# Altium schematic symbol library EPC_2023_Q1a_1.SCHLIB: 86 symbols (part 1 of 2)
Pins are listed as number, name and electrical type; pins without a type are passive.

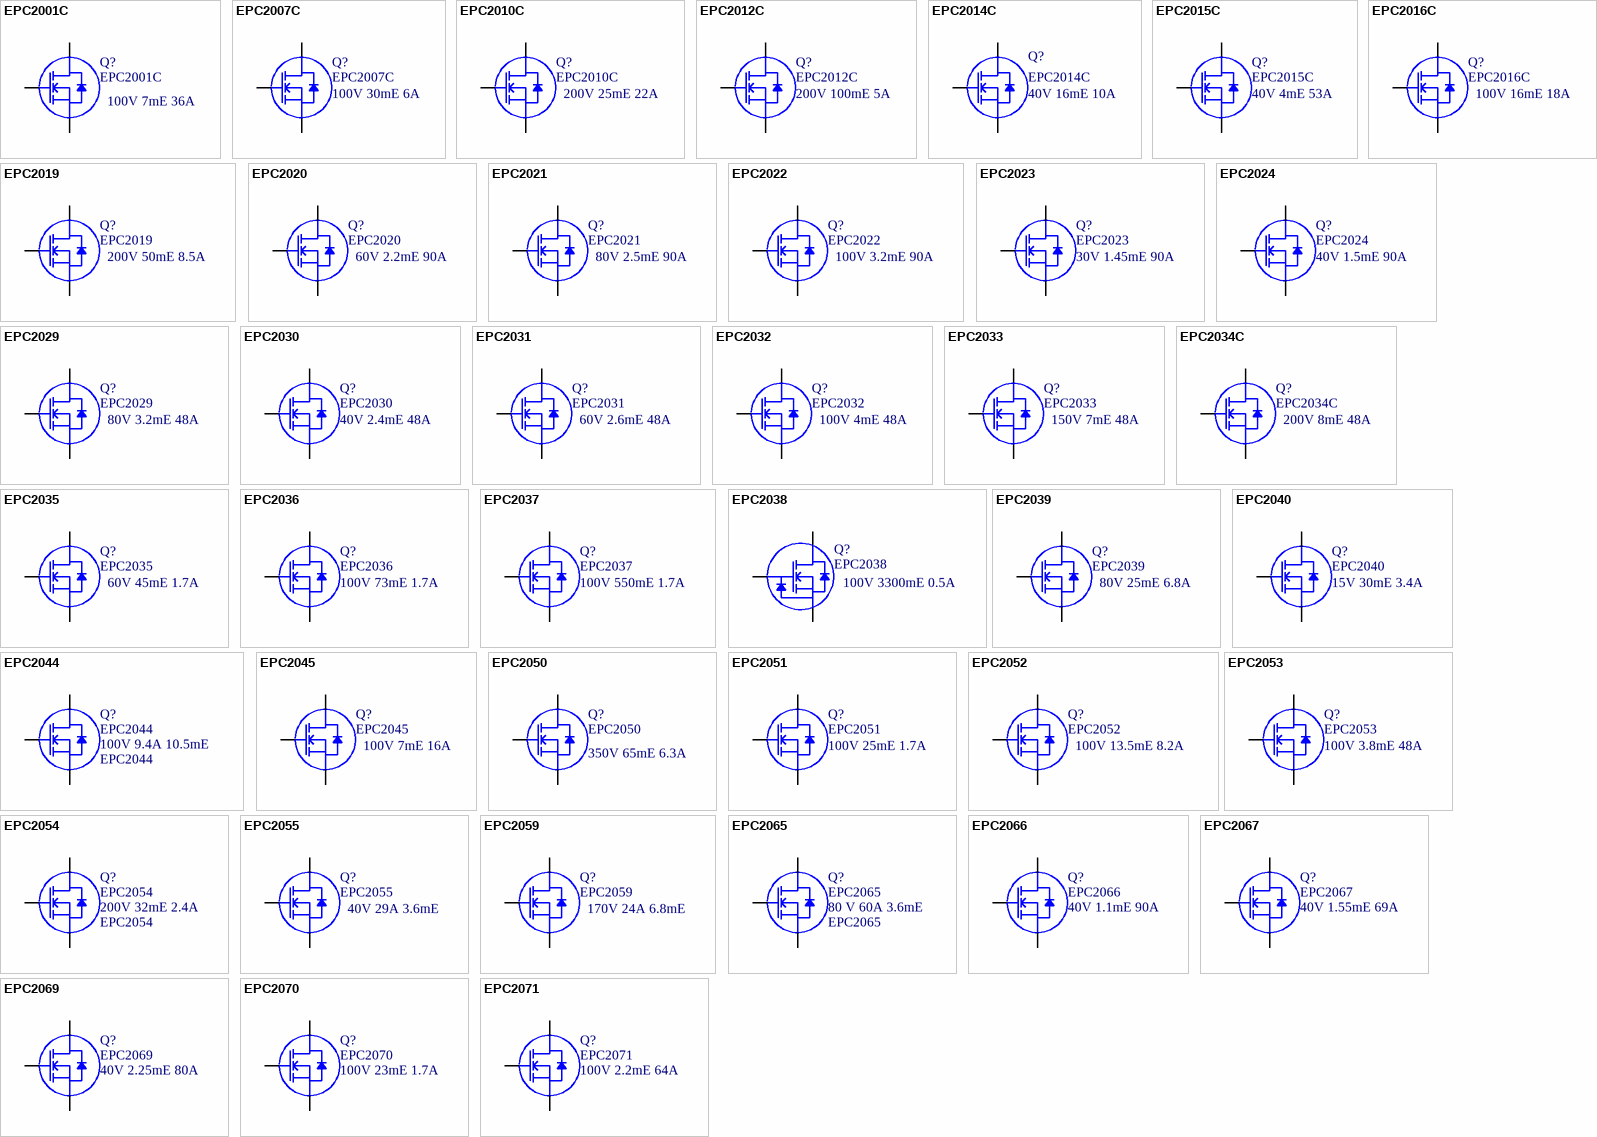
[diagram p0: symbols EPC2001C to EPC2071]

## EPC2001C
designator Q?
100V 7mE 36A; MFG: EPC; Part Number: EPC2001C; EPC Part Number: EPC2001C; Config: *; Status: Released; MFGPN: EPC2001C; Supplier 1: Digi-Key; Supplier Part Number 1: 917-1079-2-ND; Supplier 2: Digi-Key; Supplier Part Number 2: 917-1079-1-ND; Supplier 3: Digi-Key; Supplier Part Number 3: 917-1079-6-ND; QSGdescript: 100V 7mE 36A; SchDescript: 100V 7mE 36A
footprint D0188
pins: 1 G, 2 Sub (oe), 3 D1 (oc), 4 S1 (oe), 5 D2 (oc), 6 S2 (oe), 7 D3 (oc), 8 S3 (oe), 9 D4 (oc), 10 S4 (oe), 11 D5 (oc)

## EPC2007C
designator Q?
100V 30mE 6A; MFG: EPC; Part Number: EPC2007C; EPC Part Number: EPC2007C; Config: *; Status: Released; MFGPN: EPC2007C; Supplier 1: Digi-Key; Supplier Part Number 1: 917-1081-2-ND; Supplier 2: Digi-Key; Supplier Part Number 2: 917-1081-1-ND; Supplier 3: Digi-Key; Supplier Part Number 3: 917-1081-6-ND; QSGdescript: 100V 30mE 6A; SchDescript: 100V 30mE 6A
footprint D0199
pins: 1 G, 2 Sub (oe), 3 D1 (oc), 4 S1 (oe), 5 D2 (oc)

## EPC2010C
designator Q?
200V 25mE 22A; MFG: EPC; Part Number: EPC2010C; EPC Part Number: EPC2010C; Config: *; Status: Released; MFGPN: EPC2010C; Supplier 1: Digi-Key; Supplier Part Number 1: 917-1085-2-ND; Supplier 2: Digi-Key; Supplier Part Number 2: 917-1085-1-ND; Supplier 3: Digi-Key; Supplier Part Number 3: 917-1085-6-ND; QSGdescript: 200V 25mE 22A; SchDescript: 200V 25mE 22A
footprint D0309
pins: 1 G, 2 Sub (oe), 3 D1 (oc), 4 S1 (oe), 5 D2 (oc), 6 S2 (oe), 7 D3 (oc)

## EPC2012C
designator Q?
200V 100mE 5A; MFG: EPC; Part Number: EPC2012C; EPC Part Number: EPC2012C; Config: *; Status: Released; MFGPN: EPC2012C; Supplier 1: Digi-Key; Supplier Part Number 1: 917-1084-2-ND; Supplier 2: Digi-Key; Supplier Part Number 2: 917-1084-1-ND; Supplier 3: Digi-Key; Supplier Part Number 3: 917-1084-6-ND; QSGdescript: 200V 100mE 5A; SchDescript: 200V 100mE 5A
footprint D0375
pins: 1 G, 2 Sub (oe), 3 D (oc), 4 S (oe)

## EPC2014C
designator Q?
40V 16mE 10A; MFG: EPC; Part Number: EPC2014C; EPC Part Number: EPC2014C; Config: *; Status: Released; MFGPN: EPC2014C; Supplier 1: Digi-Key; Supplier Part Number 1: 917-1082-2-ND; Supplier 2: Digi-Key; Supplier Part Number 2: 917-1082-1-ND; Supplier 3: Digi-Key; Supplier Part Number 3: 917-1082-6-ND; QSGdescript: 40V 16mE 10A; SchDescript: 40V 16mE 10A
footprint D0199
pins: 1 G, 2 Sub (oe), 3 D1 (oc), 4 S1 (oe), 5 D2 (oc)

## EPC2015C
designator Q?
40V 4mE 53A; MFG: EPC; Part Number: EPC2015C; EPC Part Number: EPC2015C; Config: *; Status: Released; MFGPN: EPC2015C; Supplier 1: Digi-Key; Supplier Part Number 1: 917-1083-2-ND; Supplier 2: Digi-Key; Supplier Part Number 2: 917-1083-1-ND; Supplier 3: Digi-Key; Supplier Part Number 3: 917-1083-6-ND; QSGdescript: 40V 4mE 53A; SchDescript: 40V 4mE 53A
footprint D0188
pins: 1 G, 2 Sub (oe), 3 D1 (oc), 4 S1 (oe), 5 D2 (oc), 6 S2 (oe), 7 D3 (oc), 8 S3 (oe), 9 D4 (oc), 10 S4 (oe), 11 D5 (oc)

## EPC2016C
designator Q?
100V 16mE 18A; MFG: EPC; Part Number: EPC2016C; EPC Part Number: EPC2016C; Config: *; Status: Released; MFGPN: EPC2016C; Supplier 1: Digi-Key; Supplier Part Number 1: 917-1080-2-ND; Supplier 2: Digi-Key; Supplier Part Number 2: 917-1080-1-ND; Supplier 3: Digi-Key; Supplier Part Number 3: 917-1080-6-ND; QSGdescript: 100V 16mE 18A; SchDescript: 100V 16mE 18A
footprint D0155
pins: 1 G, 2 Sub (oe), 3 D1 (oc), 4 SP1 (oe), 5 D2 (oc), 6 SP2 (oe)

## EPC2019
designator Q?
200V 50mE 8.5A; MFG: EPC; Part Number: EPC2019; EPC Part Number: EPC2019; Config: *; Status: Released; MFGPN: EPC2019; Supplier 1: Digi-Key; Supplier Part Number 1: 917-1087-2-ND; Supplier 2: Digi-Key; Supplier Part Number 2: 917-1087-1-ND; Supplier 3: Digi-Key; Supplier Part Number 3: 917-1087-6-ND; QSGdescript: 200V 50mE 8.5A; SchDescript: 200V 50mE 8.5A
footprint D0364
pins: 1 G, 2 S3 (oe), 3 D1 (oc), 4 S1 (oe), 5 D2 (oc), 6 S2 (oe), 7 Sub (oe)

## EPC2020
designator Q?
60V 2.2mE 90A; MFG: EPC; Part Number: EPC2020; EPC Part Number: EPC2020; Config: *; Status: Released; MFGPN: EPC2020; Supplier 1: Digi-Key; Supplier Part Number 1: 917-1105-2-ND; Supplier 2: Digi-Key; Supplier Part Number 2: 917-1105-1-ND; Supplier 3: Digi-Key; Supplier Part Number 3: 917-1105-6-ND; QSGdescript: 60V 2.2mE 90A; SchDescript: 60V 2.2mE 90A
footprint D0232
pins: 1 G, 2 S1 (oe), 3 D1 (oc), 4 D1 (oc), 5 S2 (oe), 6 S3 (oe), 7 D2 (oc), 8 D3 (oc), 9 S4 (oe), 10 S5 (oe), 11 D4 (oc), 12 D5 (oc), 13 S6 (oe), 14 S7 (oe), 15 D6 (oc), 16 D7 (oc), 17 S8 (oe), 18 S9 (oe), 19 D8 (oc), 20 D9 (oc), 21 S10 (oe), 22 S11 (oe), 23 D10 (oc), 24 D11 (oc), 25 S12 (oe), 26 S13 (oe), 27 D12 (oc), 28 D13 (oc), 29 S14 (oe), 30 Sub (oe)

## EPC2021
designator Q?
80V 2.5mE 90A; MFG: EPC; Part Number: EPC2021; EPC Part Number: EPC2021; Config: *; Status: Released; MFGPN: EPC2021; Supplier 1: Digi-Key; Supplier Part Number 1: 917-1089-2-ND; Supplier 2: Digi-Key; Supplier Part Number 2: 917-1089-1-ND; Supplier 3: Digi-Key; Supplier Part Number 3: 917-1089-6-ND; QSGdescript: 80V 2.5mE 90A; SchDescript: 80V 2.5mE 90A
footprint D0232
pins: 1 G, 2 S1 (oe), 3 D1 (oc), 4 D2 (oc), 5 S2 (oe), 6 S3 (oe), 7 D3 (oc), 8 D4 (oc), 9 S4 (oe), 10 S5 (oe), 11 D5 (oc), 12 D6 (oc), 13 S6 (oe), 14 S7 (oe), 15 D7 (oc), 16 D8 (oc), 17 S8 (oe), 18 S9 (oe), 19 D9 (oc), 20 D10 (oc), 21 S10 (oe), 22 S11 (oe), 23 D11 (oc), 24 D12 (oc), 25 S12 (oe), 26 S13 (oe), 27 D13 (oc), 28 D14 (oc), 29 S14 (oe), 30 Sub (oe)

## EPC2022
designator Q?
100V 3.2mE 90A; MFG: EPC; Part Number: EPC2022; EPC Part Number: EPC2022; Config: *; Status: Released; MFGPN: EPC2022; Supplier 1: Digi-Key; Supplier Part Number 1: 917-1133-2-ND; Supplier 2: Digi-Key; Supplier Part Number 2: 917-1133-1-ND; Supplier 3: Digi-Key; Supplier Part Number 3: 917-1133-6-ND; QSGdescript: 100V 3.2mE 90A; SchDescript: 100V 3.2mE 90A
footprint D0232
pins: 1 G, 2 S1 (oe), 3 D1 (oc), 4 D2 (oc), 5 S2 (oe), 6 S3 (oe), 7 D3 (oc), 8 D4 (oc), 9 S4 (oe), 10 S5 (oe), 11 D5 (oc), 12 D6 (oc), 13 S6 (oe), 14 S7 (oe), 15 D7 (oc), 16 D8 (oc), 17 S8 (oe), 18 S9 (oe), 19 D9 (oc), 20 D10 (oc), 21 S10 (oe), 22 S11 (oe), 23 D11 (oc), 24 D12 (oc), 25 S12 (oe), 26 S13 (oe), 27 D13 (oc), 28 D14 (oc), 29 S14 (oe), 30 Sub (oe)

## EPC2023
designator Q?
30V 1.45mE 90A; MFG: EPC; Part Number: EPC2023; EPC Part Number: EPC2023; Config: *; Status: Released; MFGPN: EPC2023; Supplier 1: Digi-Key; Supplier Part Number 1: 917-1088-2-ND; Supplier 2: Digi-Key; Supplier Part Number 2: 917-1088-1-ND; Supplier 3: Digi-Key; Supplier Part Number 3: 917-1088-6-ND; QSGdescript: 30V 1.45mE 90A; SchDescript: 30V 1.45mE 90A
footprint D0232
pins: 1 G, 2 S1 (oe), 3 D1 (oc), 4 D2 (oc), 5 S2 (oe), 6 S3 (oe), 7 D3 (oc), 8 D4 (oc), 9 S4 (oe), 10 S5 (oe), 11 D5 (oc), 12 D6 (oc), 13 S6 (oe), 14 S7 (oe), 15 D7 (oc), 16 D8 (oc), 17 S8 (oe), 18 S9 (oe), 19 D9 (oc), 20 D10 (oc), 21 S10 (oe), 22 S11 (oe), 23 D11 (oc), 24 D12 (oc), 25 S12 (oe), 26 S13 (oe), 27 D13 (oc), 28 D14 (oc), 29 S14 (oe), 30 Sub (oe)

## EPC2024
designator Q?
40V 1.5mE 90A; MFG: EPC; Part Number: EPC2024; EPC Part Number: EPC2024; Config: *; Status: Released; MFGPN: EPC2024; Supplier 1: Digi-Key; Supplier Part Number 1: 917-1106-2-ND; Supplier 2: Digi-Key; Supplier Part Number 2: 917-1106-1-ND; Supplier 3: Digi-Key; Supplier Part Number 3: 917-1106-6-ND; QSGdescript: 40V 1.5mE 90A; SchDescript: 40V 1.5mE 90A
footprint D0232
pins: 1 G, 2 S1 (oe), 3 D1 (oc), 4 D2 (oc), 5 S2 (oe), 6 S3 (oe), 7 D3 (oc), 8 D4 (oc), 9 S4 (oe), 10 S5 (oe), 11 D5 (oc), 12 D6 (oc), 13 S6 (oe), 14 S7 (oe), 15 D7 (oc), 16 D8 (oc), 17 S8 (oe), 18 S9 (oe), 19 D9 (oc), 20 D10 (oc), 21 S10 (oe), 22 S11 (oe), 23 D11 (oc), 24 D12 (oc), 25 S12 (oe), 26 S13 (oe), 27 D13 (oc), 28 D14 (oc), 29 S14 (oe), 30 Sub (oe)

## EPC2029
designator Q?
80V 3.2mE 48A; MFG: EPC; Part Number: EPC2029; EPC Part Number: EPC2029; Config: *; Status: Released; MFGPN: EPC2029; Supplier 1: Digi-Key; Supplier Part Number 1: 917-1107-2-ND; Supplier 2: Digi-Key; Supplier Part Number 2: 917-1107-1-ND; Supplier 3: Digi-Key; Supplier Part Number 3: 917-1107-6-ND; QSGdescript: 80V 3.2mE 48A; SchDescript: 80V 3.2mE 48A
footprint D0386T3
footprint D0386T4
pins: 1 G, 2 G, 3 S1 (oe), 4 S2 (oe), 5 D1 (oc), 6 D2 (oc), 7 D3 (oc), 8 D4 (oc), 9 D5 (oc), 10 S3 (oe), 11 S4 (oe), 12 Sub (oe), 13 S5 (oe), 14 S6 (oe), 15 D6 (oc), 16 D7 (oc), 17 D8 (oc), 18 D9 (oc), 19 D10 (oc), 20 S7 (oe), 21 S8 (oe), 22 S9 (oe), 23 S10 (oe), 24 S11 (oe)

## EPC2030
designator Q?
40V 2.4mE 48A; MFG: EPC; Part Number: EPC2030; EPC Part Number: EPC2030; Config: *; Status: Released; MFGPN: EPC2030; Supplier 1: Digi-Key; Supplier Part Number 1: 917-1150-2-ND; Supplier 2: Digi-Key; Supplier Part Number 2: 917-1150-1-ND; Supplier 3: Digi-Key; Supplier Part Number 3: 917-1150-6-ND; QSGdescript: 40V 2.4mE 48A; SchDescript: 40V 2.4mE 48A
footprint D0386T3
footprint D0386T4
pins: 1 G, 2 G, 3 S1 (oe), 4 S2 (oe), 5 D1 (oc), 6 D2 (oc), 7 D3 (oc), 8 D4 (oc), 9 D5 (oc), 10 S3 (oe), 11 S4 (oe), 12 Sub (oe), 13 S5 (oe), 14 S6 (oe), 15 D6 (oc), 16 D7 (oc), 17 D8 (oc), 18 D9 (oc), 19 D10 (oc), 20 S7 (oe), 21 S8 (oe), 22 S9 (oe), 23 S10 (oe), 24 S11 (oe)

## EPC2031
designator Q?
60V 2.6mE 48A; MFG: EPC; Part Number: EPC2031; EPC Part Number: EPC2031; Config: *; Status: Released; MFGPN: EPC2031; Supplier 1: Digi-Key; Supplier Part Number 1: 917-1151-2-ND; Supplier 2: Digi-Key; Supplier Part Number 2: 917-1151-1-ND; Supplier 3: Digi-Key; Supplier Part Number 3: 917-1151-6-ND; QSGdescript: 60V 2.6mE 48A; SchDescript: 60V 2.6mE 48A
footprint D0386T3
footprint D0386T4
pins: 1 G, 2 G, 3 S1 (oe), 4 S2 (oe), 5 D1 (oc), 6 D2 (oc), 7 D3 (oc), 8 D4 (oc), 9 D5 (oc), 10 S3 (oe), 11 S4 (oe), 12 Sub (oe), 13 S5 (oe), 14 S6 (oe), 15 D6 (oc), 16 D7 (oc), 17 D8 (oc), 18 D9 (oc), 19 D10 (oc), 20 S7 (oe), 21 S8 (oe), 22 S9 (oe), 23 S10 (oe), 24 S11 (oe)

## EPC2032
designator Q?
100V 4mE 48A; MFG: EPC; Part Number: EPC2032; EPC Part Number: EPC2032; Config: *; Status: Released; MFGPN: EPC2032; Supplier 1: Digi-Key; Supplier Part Number 1: 917-1126-2-ND; Supplier 2: Digi-Key; Supplier Part Number 2: 917-1126-1-ND; Supplier 3: Digi-Key; Supplier Part Number 3: 917-1126-6-ND; QSGdescript: 100V 4mE 48A; SchDescript: 100V 4mE 48A
footprint D0386T3
footprint D0386T4
pins: 1 G, 2 G, 3 S1 (oe), 4 S2 (oe), 5 D1 (oc), 6 D2 (oc), 7 D3 (oc), 8 D4 (oc), 9 D5 (oc), 10 S3 (oe), 11 S4 (oe), 12 Sub (oe), 13 S5 (oe), 14 S6 (oe), 15 D6 (oc), 16 D7 (oc), 17 D8 (oc), 18 D9 (oc), 19 D10 (oc), 20 S7 (oe), 21 S8 (oe), 22 S9 (oe), 23 S10 (oe), 24 S11 (oe)

## EPC2033
designator Q?
150V 7mE 48A; MFG: EPC; Part Number: EPC2033; EPC Part Number: EPC2033; Config: *; Status: Released; MFGPN: EPC2033; Supplier 1: Digi-Key; Supplier Part Number 1: 917-1131-2-ND; Supplier 2: Digi-Key; Supplier Part Number 2: 917-1131-1-ND; Supplier 3: Digi-Key; Supplier Part Number 3: 917-1131-6-ND; QSGdescript: 150V 7mE 48A; SchDescript: 150V 7mE 48A
footprint D0386T3
footprint D0386T4
pins: 1 G, 2 G, 3 S1 (oe), 4 S2 (oe), 5 D1 (oc), 6 D2 (oc), 7 D3 (oc), 8 D4 (oc), 9 D5 (oc), 10 S3 (oe), 11 S4 (oe), 12 Sub (oe), 13 S5 (oe), 14 S6 (oe), 15 D6 (oc), 16 D7 (oc), 17 D8 (oc), 18 D9 (oc), 19 D10 (oc), 20 S7 (oe), 21 S8 (oe), 22 S9 (oe), 23 S10 (oe), 24 S11 (oe)

## EPC2034C
designator Q?
200V 8mE 48A; MFG: EPC; Part Number: EPC2034C; EPC Part Number: EPC2034C; Config: *; Status: Released; MFGPN: EPC2034C; Supplier 1: Digi-Key; Supplier Part Number 1: 917-1214-2-ND; Supplier 2: Digi-Key; Supplier Part Number 2: 917-1214-1-ND; Supplier 3: Digi-Key; Supplier Part Number 3: 917-1214-6-ND; QSGdescript: 200V 8mE 48A; SchDescript: 200V 8mE 48A
footprint D0386T3
footprint D0386T4
pins: 1 G, 2 G, 3 S1 (oe), 4 S2 (oe), 5 D1 (oc), 6 D2 (oc), 7 D3 (oc), 8 D4 (oc), 9 D5 (oc), 10 S3 (oe), 11 S4 (oe), 12 Sub (oe), 13 S5 (oe), 14 S6 (oe), 15 D6 (oc), 16 D7 (oc), 17 D8 (oc), 18 D9 (oc), 19 D10 (oc), 20 S7 (oe), 21 S8 (oe), 22 S9 (oe), 23 S10 (oe), 24 S11 (oe)

## EPC2035
designator Q?
60V 45mE 1.7A; MFG: EPC; Part Number: EPC2035; EPC Part Number: EPC2035; Config: *; Status: Released; MFGPN: EPC2035; Supplier 1: Digi-Key; Supplier Part Number 1: 917-1099-2-ND; Supplier 2: Digi-Key; Supplier Part Number 2: 917-1099-1-ND; Supplier 3: Digi-Key; Supplier Part Number 3: 917-1099-6-ND; QSGdescript: 60V 45mE 1.7A; SchDescript: 60V 45mE 1.7A
footprint D0353
pins: 1 G, 2 S1 (oe), 3 D1 (oc), 4 S2 (oe)

## EPC2036
designator Q?
100V 73mE 1.7A; MFG: EPC; Part Number: EPC2036; EPC Part Number: EPC2036; Config: *; Status: Released; MFGPN: EPC2036; Supplier 1: Digi-Key; Supplier Part Number 1: 917-1100-2-ND; Supplier 2: Digi-Key; Supplier Part Number 2: 917-1100-1-ND; Supplier 3: Digi-Key; Supplier Part Number 3: 917-1100-6-ND; QSGdescript: 100V 73mE 1.7A; SchDescript: 100V 73mE 1.7A
footprint D0353
pins: 1 G, 2 S1 (oe), 3 D1 (oc), 4 S2 (oe)

## EPC2037
designator Q?
100V 550mE 1.7A; MFG: EPC; Part Number: EPC2037; EPC Part Number: EPC2037; Config: *; Status: Released; MFGPN: EPC2037; Supplier 1: Digi-Key; Supplier Part Number 1: 917-1137-2-ND; Supplier 2: Digi-Key; Supplier Part Number 2: 917-1137-1-ND; Supplier 3: Digi-Key; Supplier Part Number 3: 917-1137-6-ND; QSGdescript: 100V 550mE 1.7A; SchDescript: 100V 550mE 1.7A
footprint D0353
pins: 1 G, 2 S1 (oe), 3 D1 (oc), 4 S2 (oe)

## EPC2038
designator Q?
100V 3300mE 0.5A; MFG: EPC; Part Number: EPC2038; EPC Part Number: EPC2038; Config: *; Status: Released; MFGPN: EPC2038; Supplier 1: Digi-Key; Supplier Part Number 1: 917-1138-2-ND; Supplier 2: Digi-Key; Supplier Part Number 2: 917-1138-1-ND; Supplier 3: Digi-Key; Supplier Part Number 3: 917-1138-6-ND; QSGdescript: 100V 3300mE 0.5A; SchDescript: 100V 3300mE 0.5A
footprint D0353
pins: 1 G, 2 S1 (oe), 3 D1 (oc), 4 S2 (oe)

## EPC2039
designator Q?
80V 25mE 6.8A; MFG: EPC; Part Number: EPC2039; EPC Part Number: EPC2039; Config: *; Status: Released; MFGPN: EPC2039; Supplier 1: Digi-Key; Supplier Part Number 1: 917-1147-2-ND; Supplier 2: Digi-Key; Supplier Part Number 2: 917-1147-1-ND; Supplier 3: Digi-Key; Supplier Part Number 3: 917-1147-6-ND; QSGdescript: 80V 25mE 6.8A; SchDescript: 80V 25mE 6.8A
footprint D0144
pins: 1 G, 2 S1 (oe), 3 S2 (oe), 4 D1 (oc), 5 D2 (oc), 6 D3 (oc), 7 D4 (oc), 8 S3 (oe), 9 S4 (oe)

## EPC2040
designator Q?
15V 30mE 3.4A; MFG: EPC; Part Number: EPC2040; EPC Part Number: EPC2040; Config: *; Status: Released; MFGPN: EPC2040; Supplier 1: Digi-Key; Supplier Part Number 1: 917-1153-2-ND; Supplier 2: Digi-Key; Supplier Part Number 2: 917-1153-1-ND; Supplier 3: Digi-Key; Supplier Part Number 3: 917-1153-6-ND; QSGdescript: 15V 30mE 3.4A; SchDescript: 15V 30mE 3.4A
footprint D0210
pins: 1 G, 2 D1 (oc), 3 S1 (oe), 4 S2 (oe), 5 D2 (oc), 6 S3 (oe)

## EPC2044
designator Q?  SchDescript: 100V 9.4A 10.5mE
100V 10.5mE 9.4A; MFG: EPC; Name: Dahlia; Part Number: EPC2044; MFGPN: EPC2044; EPC Part Number: EPC2044; QSGdescript: 100V 9.4A 10.5mE; Status: Released; Supplier 1: Digi-Key; Supplier Part Number 1: 917-EPC2044CT-ND; Supplier 2: Digi-Key; Supplier Part Number 2: 917-EPC2044TR-ND; Supplier 3: Digi-Key; Supplier Part Number 3: 917-EPC2044DKR-ND
footprint D0265
pins: A1 G, A2 D1 (oc), A3 S3 (oe), A4 D4 (oc), A5 S6 (oe), B1 S1 (oe), B2 D2 (oc), B3 S4 (oe), B4 D5 (oc), B5 S7 (oe), C1 S2 (oe), C2 D3 (oc), C3 S5 (oe), C4 D6 (oc), C5 S8 (oe)

## EPC2045
designator Q?
100V 7mE 16A; MFG: EPC; Part Number: EPC2045; EPC Part Number: EPC2045; Config: *; Status: Released; MFGPN: EPC2045; Supplier 1: Digi-Key; Supplier Part Number 1: 917-1186-2-ND; Supplier 2: Digi-Key; Supplier Part Number 2: 917-1186-1-ND; Supplier 3: Digi-Key; Supplier Part Number 3: 917-1186-6-ND; QSGdescript: 100V 7mE 16A; SchDescript: 100V 7mE 16A
footprint D0012
pins: 1 G, 2 S1 (oe), 3 S2 (oe), 4 D1 (oc), 5 D2 (oc), 6 D3 (oc), 7 S3 (oe), 8 Sub (oe), 9 S4 (oe), 10 D4 (oc), 11 D5 (oc), 12 D6 (oc), 13 S5 (oe), 14 S6 (oe), 15 S7 (oe)

## EPC2050
designator Q?
350V 65mE 6.3A; MFG: EPC; Part Number: EPC2050; EPC Part Number: EPC2050; Config: *; Status: Released; MFGPN: EPC2050; QSGdescript: 350V 65mE 6.3A; SchDescript: 350V 65mE 6.3A; Supplier 1: Digi-Key; Supplier 2: Digi-Key; Supplier 3: Digi-Key; Supplier Part Number 1: EPC2050-ND
footprint D0078
pins: 1 G, 2 S1 (oe), 3 S2 (oe), 4 S3 (oe), 5 D1 (oc), 6 D2 (oc), 7 D3 (oc), 8 D4 (oc), 9 S4 (oe), 10 S5 (oe), 11 Sub (oe), 12 S6 (oe)

## EPC2051
designator Q?
100V 25mE 1.7A; MFG: EPC; Part Number: EPC2051; EPC Part Number: EPC2051; Config: *; Status: Released; MFGPN: EPC2051; Supplier 1: Digi-Key; Supplier Part Number 1: 917-1201-2-ND; Supplier 2: Digi-Key; Supplier Part Number 2: 917-1201-1-ND; Supplier 3: Digi-Key; Supplier Part Number 3: 917-1201-6-ND; QSGdescript: 100V 25mE 1.7A; SchDescript: 100V 25mE 1.7A
footprint D0001
pins: 1 G, 2 S1 (oe), 3 D1 (oc), 4 D2 (oc), 5 S2 (oe), 6 Sub (oe)

## EPC2052
designator Q?
100V 13.5mE 8.2A; MFG: EPC; Part Number: EPC2052; EPC Part Number: EPC2052; Config: *; Status: Released; MFGPN: EPC2052; Supplier 1: Digi-Key; Supplier Part Number 1: 917-1202-2-ND; Supplier 2: Digi-Key; Supplier Part Number 2: 917-1202-1-ND; Supplier 3: Digi-Key; Supplier Part Number 3: 917-1202-6-ND; QSGdescript: 100V 13.5mE 8.2A; SchDescript: 100V 13.5mE 8.2A
footprint D0045
pins: 1 G, 2 S1 (oe), 3 S2 (oe), 4 D1 (oc), 5 D2 (oc), 6 D3 (oc), 7 S3 (oe), 8 S5 (oe), 9 S4 (oe)

## EPC2053
designator Q?
100V 3.8mE 48A; MFG: EPC; Part Number: EPC2053; EPC Part Number: EPC2053; Config: *; Status: Released; MFGPN: EPC2053; Supplier 1: Digi-Key; Supplier Part Number 1: 917-1204-2-ND; Supplier 2: Digi-Key; Supplier Part Number 2: 917-1204-1-ND; Supplier 3: Digi-Key; Supplier Part Number 3: 917-1204-6-ND; QSGdescript: 100V 3.8mE 48A; SchDescript: 100V 3.8mE 48A
footprint D0034
pins: 1 G, 2 S1 (oe), 3 S2 (oe), 4 S3 (oe), 5 D1 (oc), 6 D2 (oc), 7 D3 (oc), 8 D4 (oc), 9 S4 (oe), 10 S5 (oe), 11 S6 (oe), 12 S7 (oe), 13 D5 (oc), 14 D6 (oc), 15 D7 (oc), 16 D8 (oc), 17 S8 (oe), 18 S9 (oe), 19 S10 (oe), 20 S11 (oe), 21 D9 (oc), 22 D10 (oc), 23 D11 (oc), 24 D12 (oc), 25 S12 (oe), 26 S13 (oe), 27 S14 (oe), 28 S15 (oe)

## EPC2054
designator Q?
200V 32mE 2.4A; MFG: EPC; Part Number: EPC2054; SchDescript: 200V 32mE 2.4A; MFGPN: EPC2054; EPC Part Number: EPC2054; QSGdescript: 200V 32mE 2.4A; Status: Released; Supplier 1: Digi-Key; Supplier Part Number 1: 917-1206-2-ND; Supplier 2: Digi-Key; Supplier 3: Digi-Key
footprint D0474
pins: 1 G, 2 S1 (oe), 3 D (oc), 4 S2 (oe)

## EPC2055
designator Q?
40V 29A 3.6mE; MFG: EPC; Part Number: EPC2055; EPC Part Number: EPC2055; Config: *; Status: Released; MFGPN: EPC2055; Supplier 1: Digi-Key; Supplier Part Number 1: 917-EPC2055CT-ND; Supplier 2: Digi-Key; Supplier Part Number 2: 917-EPC2055TR-ND; Supplier 3: Digi-Key; Supplier Part Number 3: 917-EPC2055DKR-ND; QSGdescript: 40V 29A 3.6mE; SchDescript: 40V 29A 3.6mE
footprint D0133CT44M
pins: 1 G, 2 S (oe), 3 D (oc), 4 S (oe), 5 D (oc), 6 S (oe)

## EPC2059
designator Q?  SchDescript: 170V 24A 6.8mE
170V 25A 9mE; MFG: EPC; MFGPN: EPC2059; Part Number: EPC2059; EPC Part Number: EPC2059; Config: *; Status: Released; Supplier 1: Digi-Key; Supplier 2: Digi-Key; Supplier 3: Digi-Key; Supplier Part Number 3: 917-EPC2059DKR-ND; QSGdescript: 170V 24A 6.8mE; Supplier Part Number 1: 917-EPC2059CT-ND; Supplier Part Number 2: 917-EPC2059TR-ND
footprint D0298T34M
pins: 1 G, 2 S, 3 D, 4 S, 5 D, 6 S

## EPC2065
designator Q?
80 V 60A 3.6mE; MFG: EPC; Part Number: EPC2065; SchDescript: 80 V 60A 3.6mE; MFGPN: EPC2065; EPC Part Number: EPC2065; QSGdescript: 80 V 60A 3.6mE; Status: Released; Supplier 1: Digi-Key; Supplier Part Number 1: 917-EPC2065TR-ND; Supplier 2: Digi-Key; Supplier 3: Digi-Key
footprint D0320T34M
pins: 1 G, 2 S, 3 D, 4 S, 5 D, 6 S, 7 D, 8 S

## EPC2066
designator Q?
40V 1.1mE 90A; MFG: EPC; Name: Aspen; Part Number: EPC2066; SchDescript: 40V 1.1mE 90A; MFGPN: EPC2066; EPC Part Number: EPC2066; QSGdescript: 40V 1.1mE 90A; Status: Released; Supplier 1: Digi-Key; Supplier Part Number 1: 917-EPC2066TR-ND; Supplier 2: Digi-Key; Supplier Part Number 2: 917-EPC2066CT-ND; Supplier 3: Digi-Key; Supplier Part Number 3: 917-EPC2066DKR-ND
footprint D0650
footprint D0232
pins: 1 G, 2 S1 (oe), 3 D1 (oc), 4 D2 (oc), 5 S2 (oe), 6 S3 (oe), 7 D3 (oc), 8 D4 (oc), 9 S4 (oe), 10 S5 (oe), 11 D5 (oc), 12 D6 (oc), 13 S6 (oe), 14 S7 (oe), 15 D7 (oc), 16 D8 (oc), 17 S8 (oe), 18 S9 (oe), 19 D9 (oc), 20 D10 (oc), 21 S10 (oe), 22 S11 (oe), 23 D11 (oc), 24 D12 (oc), 25 S12 (oe), 26 S13 (oe), 27 D13 (oc), 28 D14 (oc), 29 S14 (oe), 30 Sub (oe)

## EPC2067
designator Q?
40V 1.55mE 69A; MFG: EPC; Part Number: EPC2067; SchDescript: 40V 1.55mE 69A; MFGPN: EPC2067; EPC Part Number: EPC2067; QSGdescript: 40V 1.55mE 69A; Status: Released; Supplier 1: Digi-Key; Supplier Part Number 1: 917-EPC2067-TR-ND; Supplier 2: Digi-Key; Supplier Part Number 2: 917-EPC2067CT-ND; Supplier 3: Digi-Key; Supplier Part Number 3: 917-EPC2067DKR-ND
footprint D0540
pins: 1 G, 2 S1 (oe), 3 D1 (oc), 4 D2 (oc), 5 S2 (oe), 6 S3 (oe), 7 D3 (oc), 8 D4 (oc), 9 S4 (oe), 10 S5 (oe), 11 D5 (oc), 12 D6 (oc), 13 S6 (oe), 14 S7 (oe)

## EPC2069
designator Q?  SchDescript: 40V 2.25mE 80A
40V 2.25mE 69A; MFG: EPC; Name: Charon; Part Number: EPC2069; MFGPN: EPC2069; EPC Part Number: EPC2069; QSGdescript: 40V 2.25mE 80A; Status: Released; Supplier 1: Digi-Key; Supplier Part Number 1: 917-EPC2069-TR-ND; Supplier 2: Digi-Key; Supplier Part Number 2: 917-EPC2069CT-ND; Supplier 3: Digi-Key; Supplier Part Number 3: 917-EPC2069DKR-ND
footprint D0496
pins: 1 G, 2 S1 (oe), 3 D1 (oc), 4 D2 (oc), 5 S2 (oe), 6 S3 (oe), 7 D3 (oc), 8 D4 (oc), 9 S4 (oe), 10 S5 (oe), 11 D5 (oc), 12 D6 (oc), 13 S6 (oe), 14 S7 (oe), 15 D7 (oc), 16 D8 (oc)

## EPC2070
designator Q?
100V 23mE 1.7A; MFG: EPC; Name: Cedar; Part Number: EPC2070; SchDescript: 100V 23mE 1.7A; MFGPN: EPC2070; EPC Part Number: EPC2070; QSGdescript: 100V 23mE 1.7A; Status: Released; Supplier 1: Digi-Key; Supplier Part Number 1: 917-EPC2070TR-ND; Supplier 2: Digi-Key; Supplier Part Number 2: 917-EPC2070CT-ND; Supplier 3: Digi-Key; Supplier Part Number 3: 917-EPC2070DKR-ND
footprint D0562AT4
pins: 1 G, 2 S1 (oe), 3 D1 (oc), 4 D2 (oc), 5 S2 (oe), 6 Sub (oe)

## EPC2071
designator Q?
100V 2.2mE 64A; MFG: EPC; Name: Mahogany; Part Number: EPC2071; SchDescript: 100V 2.2mE 64A; MFGPN: EPC2071; EPC Part Number: EPC2071; QSGdescript: 100V 2.2mE 64A; Status: Released; Supplier 1: Digi-Key; Supplier Part Number 1: 917-EPC2071TR-ND; Supplier 2: Digi-Key; Supplier Part Number 2: 917-EPC2071CT-ND; Supplier 3: Digi-Key; Supplier Part Number 3: 917-EPC2071DKR-ND
footprint D0683
pins: 1 G, 2 S1 (oe), 3 D1 (oc), 4 D2 (oc), 5 S2 (oe), 6 S3 (oe), 7 D3 (oc), 8 D4 (oc), 9 S4 (oe), 10 S5 (oe), 11 D5 (oc), 12 D6 (oc), 13 S6 (oe), 14 S7 (oe), 15 D7 (oc), 16 D8 (oc), 17 S8 (oe), 18 S9 (oe), 19 D9 (oc), 20 D10 (oc), 21 S10 (oe), 22 S11 (oe)

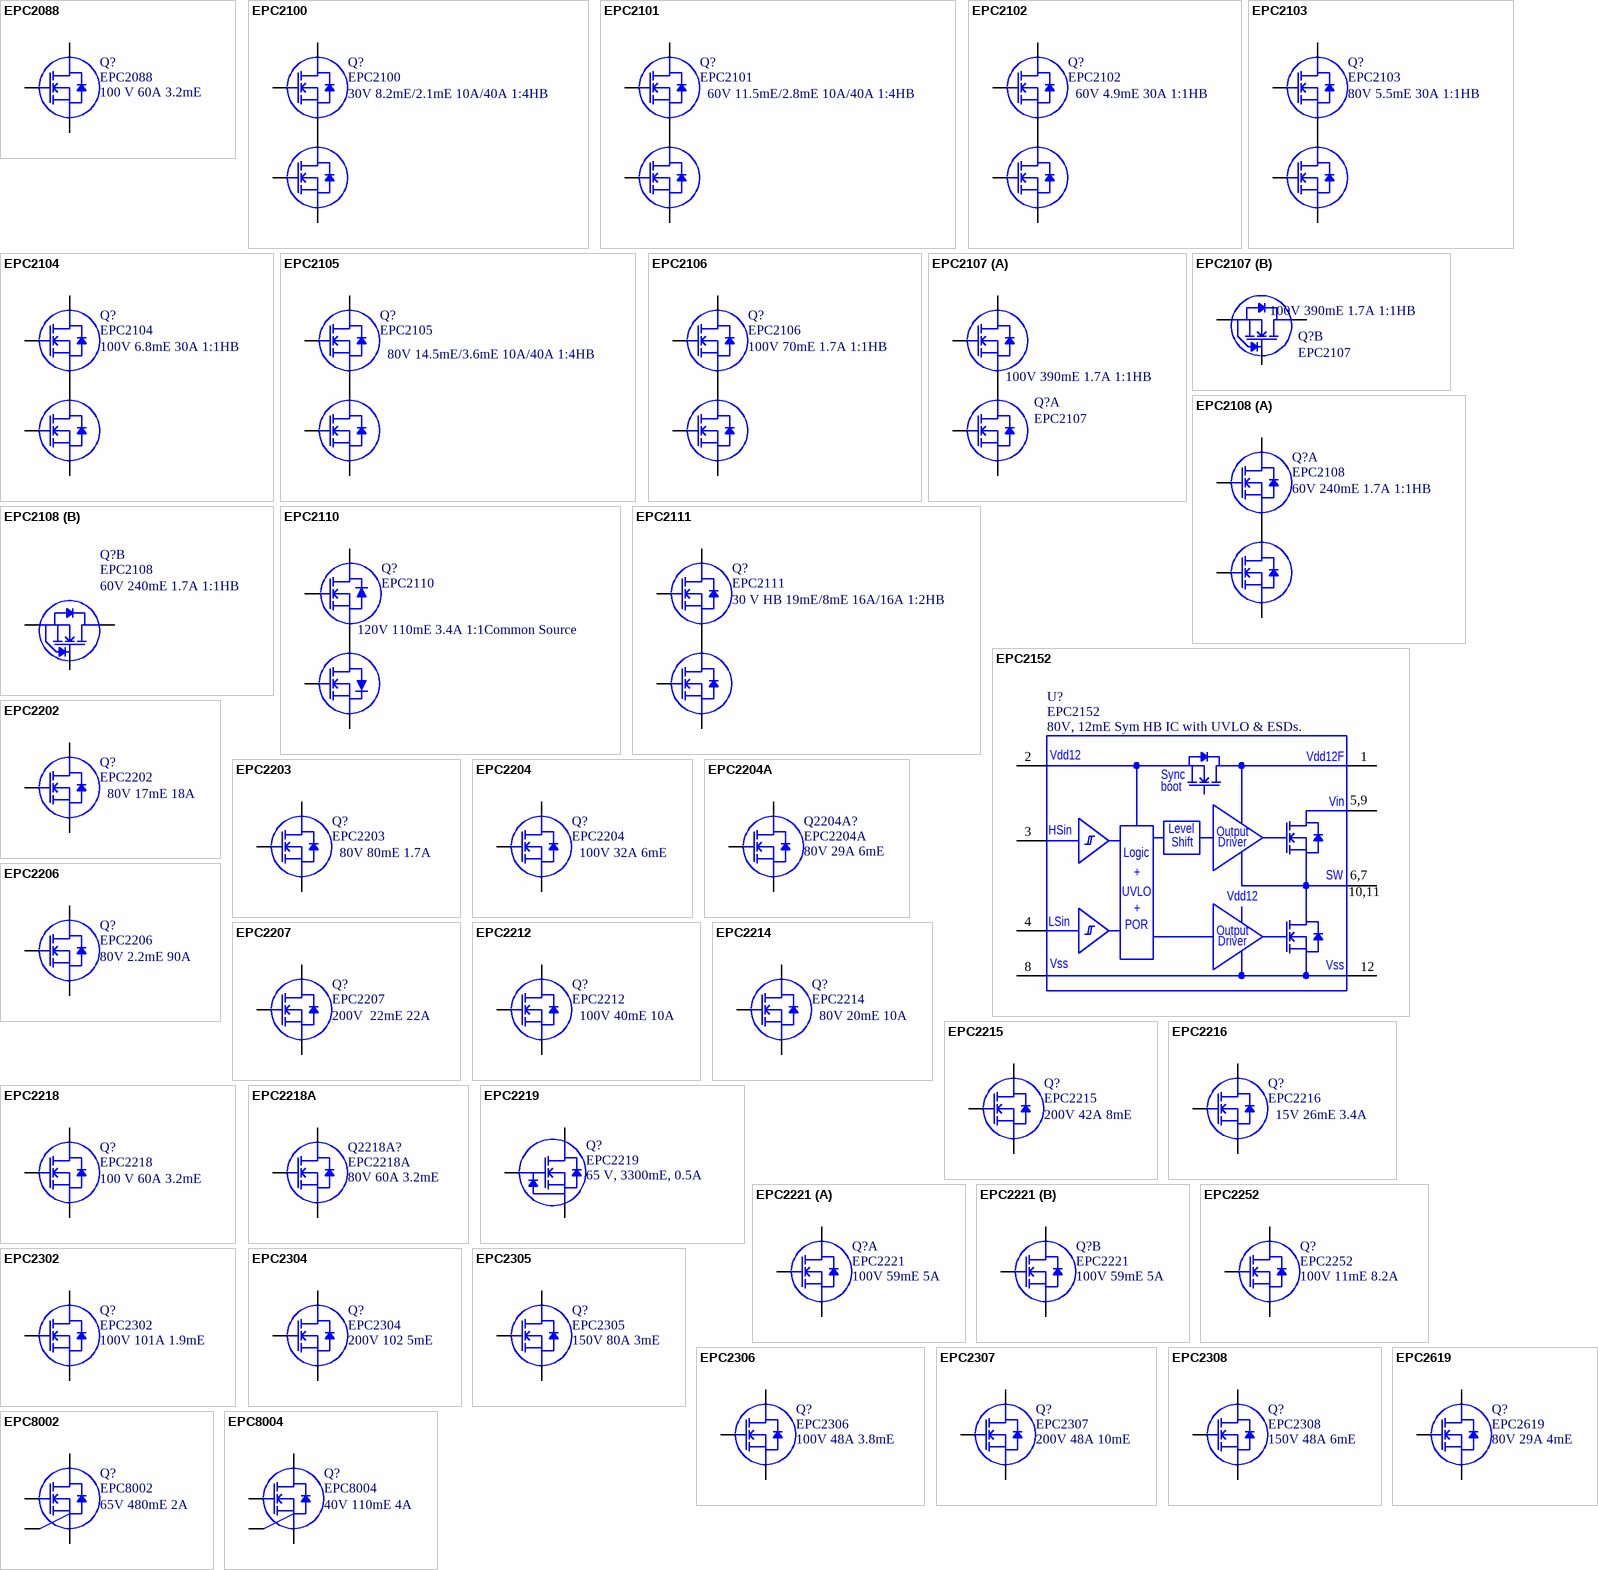
[diagram p1: symbols EPC2088 to EPC8004]

## EPC2088
designator Q?
100 V 60A 3.2mE; MFG: EPC; Part Number: EPC2088; SchDescript: 100 V 60A 3.2mE; MFGPN: EPC2088; EPC Part Number: EPC2088; QSGdescript: 100 V 60A 3.2mE; Status: Released; Supplier 1: Digi-Key; Supplier Part Number 1: 917-EPC2088TR-ND; Supplier 2: Digi-Key; Supplier Part Number 2: 917-EPC2088CT-ND; Supplier 3: Digi-Key; Supplier Part Number 3: 917-EPC2088DKR-ND
footprint D0320T34M
pins: 1 G, 2 S, 3 D, 4 S, 5 D, 6 S, 7 D, 8 S

## EPC2100
designator Q?
30V 8.2mE/2.1mE 10A/40A 1:4HB; MFG: EPC; Part Number: EPC2100; EPC Part Number: EPC2100; Config: *; Status: Released; MFGPN: EPC2100; Supplier 1: Digi-Key; Supplier Part Number 1: 917-1180-2-ND; Supplier 2: Digi-Key; Supplier Part Number 2: 917-1180-1-ND; Supplier 3: Digi-Key; Supplier Part Number 3: 917-1180-6-ND; QSGdescript: 30V 8.2mE/2.1mE 10A/40A 1:4HB; SchDescript: 30V 8.2mE/2.1mE 10A/40A 1:4HB
footprint D0342
pins: 1 D1 (oc), 2 G1, 3 SG1, 4 G2, 5 S2 (oe), 6 S1 (oe), 7 D2 (oc), 8 D2 (oc), 9 D2 (oc), 10 D2 (oc), 11 D1 (oc), 12 S2 (oe), 13 S2 (oe), 14 S2 (oe), 15 S2 (oe), 16 S1 (oe), 17 D2 (oc), 18 D2 (oc), 19 D2 (oc), 20 D2 (oc), 21 D1 (oc), 22 S2 (oe), 23 S2 (oe), 24 S2 (oe), 25 S2 (oe), 26 S1 (oe), 27 D2 (oc), 28 D2 (oc), 29 D2 (oc), 30 D2 (oc), 31 D1 (oc), 32 S2 (oe), 33 S2 (oe), 34 S2 (oe), 35 S2 (oe), 36 S1 (oe), 37 D2 (oc), 38 D2 (oc), 39 D2 (oc), 40 D2 (oc), 41 D1 (oc), 42 S2 (oe), 43 S2 (oe), 44 S2 (oe), 45 S2 (oe), 46 S1 (oe), 47 D2 (oc), 48 D2 (oc), 49 D2 (oc), 50 D2 (oc), 51 D1 (oc), 52 S2 (oe), 53 S2 (oe), 54 S2 (oe), 55 S2 (oe), 56 S1 (oe), 57 D2 (oc), 58 D2 (oc), 59 D2 (oc), 60 D2 (oc), 61 D1 (oc), 62 S2 (oe), 63 S2 (oe), 64 S2 (oe), 65 S2 (oe), 66 S1 (oe), 67 D2 (oc), 68 D2 (oc), 69 D2 (oc), 70 D2 (oc), 71 D1 (oc), 72 S2 (oe), 73 S2 (oe), 74 S2 (oe), 75 S2 (oe)

## EPC2101
designator Q?
60V 11.5mE/2.8mE 10A/40A 1:4HB; MFG: EPC; Part Number: EPC2101; EPC Part Number: EPC2101; Config: *; Status: Released; MFGPN: EPC2101; Supplier 1: Digi-Key; Supplier Part Number 1: 917-1181-2-ND; Supplier 2: Digi-Key; Supplier Part Number 2: 917-1181-1-ND; Supplier 3: Digi-Key; Supplier Part Number 3: 917-1181-6-ND; QSGdescript: 60V 11.5mE/2.8mE 10A/40A 1:4HB; SchDescript: 60V 11.5mE/2.8mE 10A/40A 1:4HB
footprint D0342
pins: 1 D1 (oc), 2 G1, 3 SG1, 4 G2, 5 S2 (oe), 6 S1 (oe), 7 D2 (oc), 8 D2 (oc), 9 D2 (oc), 10 D2 (oc), 11 D1 (oc), 12 S2 (oe), 13 S2 (oe), 14 S2 (oe), 15 S2 (oe), 16 S1 (oe), 17 D2 (oc), 18 D2 (oc), 19 D2 (oc), 20 D2 (oc), 21 D1 (oc), 22 S2 (oe), 23 S2 (oe), 24 S2 (oe), 25 S2 (oe), 26 S1 (oe), 27 D2 (oc), 28 D2 (oc), 29 D2 (oc), 30 D2 (oc), 31 D1 (oc), 32 S2 (oe), 33 S2 (oe), 34 S2 (oe), 35 S2 (oe), 36 S1 (oe), 37 D2 (oc), 38 D2 (oc), 39 D2 (oc), 40 D2 (oc), 41 D1 (oc), 42 S2 (oe), 43 S2 (oe), 44 S2 (oe), 45 S2 (oe), 46 S1 (oe), 47 D2 (oc), 48 D2 (oc), 49 D2 (oc), 50 D2 (oc), 51 D1 (oc), 52 S2 (oe), 53 S2 (oe), 54 S2 (oe), 55 S2 (oe), 56 S1 (oe), 57 D2 (oc), 58 D2 (oc), 59 D2 (oc), 60 D2 (oc), 61 D1 (oc), 62 S2 (oe), 63 S2 (oe), 64 S2 (oe), 65 S2 (oe), 66 S1 (oe), 67 D2 (oc), 68 D2 (oc), 69 D2 (oc), 70 D2 (oc), 71 D1 (oc), 72 S2 (oe), 73 S2 (oe), 74 S2 (oe), 75 S2 (oe)

## EPC2102
designator Q?
60V 4.9mE 30A 1:1HB; MFG: EPC; Part Number: EPC2102; EPC Part Number: EPC2102; Config: *; Status: Released; MFGPN: EPC2102; Supplier 1: Digi-Key; Supplier Part Number 1: 917-1182-2-ND; Supplier 2: Digi-Key; Supplier Part Number 2: 917-1182-1-ND; Supplier 3: Digi-Key; Supplier Part Number 3: 917-1182-6-ND; QSGdescript: 60V 4.9mE 30A 1:1HB; SchDescript: 60V 4.9mE 30A 1:1HB
footprint D0342
pins: 1 D1 (oc), 2 G1, 3 SG1, 4 G2, 5 S2 (oe), 6 S1 (oe), 7 S1 (oc), 8 S1 (oc), 9 D2 (oc), 10 D2 (oc), 11 D1 (oc), 12 D1 (oe), 13 D1 (oe), 14 S2 (oe), 15 S2 (oe), 16 S1 (oe), 17 S1 (oc), 18 S1 (oc), 19 D2 (oc), 20 D2 (oc), 21 D1 (oc), 22 D1 (oe), 23 D1 (oe), 24 S2 (oe), 25 S2 (oe), 26 S1 (oe), 27 S1 (oc), 28 S1 (oc), 29 D2 (oc), 30 D2 (oc), 31 D1 (oc), 32 D1 (oe), 33 D1 (oe), 34 S2 (oe), 35 S2 (oe), 36 S1 (oe), 37 S1 (oc), 38 S1 (oc), 39 D2 (oc), 40 D2 (oc), 41 D1 (oc), 42 D1 (oe), 43 S2 (oe), 44 S2 (oe), 45 S2 (oe), 46 S1 (oe), 47 S1 (oc), 48 S1 (oc), 49 D2 (oc), 50 D2 (oc), 51 D1 (oc), 52 D1 (oe), 53 S2 (oe), 54 S2 (oe), 55 S2 (oe), 56 S1 (oe), 57 S1 (oc), 58 S1 (oc), 59 D2 (oc), 60 D2 (oc), 61 D1 (oc), 62 D1 (oe), 63 S2 (oe), 64 S2 (oe), 65 S2 (oe), 66 S1 (oe), 67 S1 (oc), 68 S1 (oc), 69 D2 (oc), 70 D2 (oc), 71 D1 (oc), 72 D1 (oe), 73 S2 (oe), 74 S2 (oe), 75 S2 (oe)

## EPC2103
designator Q?
80V 5.5mE 30A 1:1HB; MFG: EPC; Part Number: EPC2103; EPC Part Number: EPC2103; Config: *; Status: Released; MFGPN: EPC2103; Supplier 1: Digi-Key; Supplier Part Number 1: 917-1183-2-ND; Supplier 2: Digi-Key; Supplier Part Number 2: 917-1183-1-ND; Supplier 3: Digi-Key; Supplier Part Number 3: 917-1183-6-ND; QSGdescript: 80V 5.5mE 30A 1:1HB; SchDescript: 80V 5.5mE 30A 1:1HB
footprint D0342
pins: 1 D1 (oc), 2 G1, 3 SG1, 4 G2, 5 S2 (oe), 6 S1 (oe), 7 S1 (oc), 8 S1 (oc), 9 D2 (oc), 10 D2 (oc), 11 D1 (oc), 12 D1 (oe), 13 D1 (oe), 14 S2 (oe), 15 S2 (oe), 16 S1 (oe), 17 S1 (oc), 18 S1 (oc), 19 D2 (oc), 20 D2 (oc), 21 D1 (oc), 22 D1 (oe), 23 D1 (oe), 24 S2 (oe), 25 S2 (oe), 26 S1 (oe), 27 S1 (oc), 28 S1 (oc), 29 D2 (oc), 30 D2 (oc), 31 D1 (oc), 32 D1 (oe), 33 D1 (oe), 34 S2 (oe), 35 S2 (oe), 36 S1 (oe), 37 S1 (oc), 38 S1 (oc), 39 D2 (oc), 40 D2 (oc), 41 D1 (oc), 42 D1 (oe), 43 S2 (oe), 44 S2 (oe), 45 S2 (oe), 46 S1 (oe), 47 S1 (oc), 48 S1 (oc), 49 D2 (oc), 50 D2 (oc), 51 D1 (oc), 52 D1 (oe), 53 S2 (oe), 54 S2 (oe), 55 S2 (oe), 56 S1 (oe), 57 S1 (oc), 58 S1 (oc), 59 D2 (oc), 60 D2 (oc), 61 D1 (oc), 62 D1 (oe), 63 S2 (oe), 64 S2 (oe), 65 S2 (oe), 66 S1 (oe), 67 S1 (oc), 68 S1 (oc), 69 D2 (oc), 70 D2 (oc), 71 D1 (oc), 72 D1 (oe), 73 S2 (oe), 74 S2 (oe), 75 S2 (oe)

## EPC2104
designator Q?
100V 6.8mE 30A 1:1HB; MFG: EPC; Part Number: EPC2104; EPC Part Number: EPC2104; Config: *; Status: Released; MFGPN: EPC2104; Supplier 1: Digi-Key; Supplier Part Number 1: 917-1184-2-ND; Supplier 2: Digi-Key; Supplier Part Number 2: 917-1184-1-ND; Supplier 3: Digi-Key; Supplier Part Number 3: 917-1184-6-ND; QSGdescript: 100V 6.8mE 30A 1:1HB; SchDescript: 100V 6.8mE 30A 1:1HB
footprint D0342
pins: 1 D1 (oc), 2 G1, 3 SG1, 4 G2, 5 S2 (oe), 6 S1 (oe), 7 S1 (oc), 8 S1 (oc), 9 D2 (oc), 10 D2 (oc), 11 D1 (oc), 12 D1 (oe), 13 D1 (oe), 14 S2 (oe), 15 S2 (oe), 16 S1 (oe), 17 S1 (oc), 18 S1 (oc), 19 D2 (oc), 20 D2 (oc), 21 D1 (oc), 22 D1 (oe), 23 D1 (oe), 24 S2 (oe), 25 S2 (oe), 26 S1 (oe), 27 S1 (oc), 28 S1 (oc), 29 D2 (oc), 30 D2 (oc), 31 D1 (oc), 32 D1 (oe), 33 D1 (oe), 34 S2 (oe), 35 S2 (oe), 36 S1 (oe), 37 S1 (oc), 38 S1 (oc), 39 D2 (oc), 40 D2 (oc), 41 D1 (oc), 42 D1 (oe), 43 S2 (oe), 44 S2 (oe), 45 S2 (oe), 46 S1 (oe), 47 S1 (oc), 48 S1 (oc), 49 D2 (oc), 50 D2 (oc), 51 D1 (oc), 52 D1 (oe), 53 S2 (oe), 54 S2 (oe), 55 S2 (oe), 56 S1 (oe), 57 S1 (oc), 58 S1 (oc), 59 D2 (oc), 60 D2 (oc), 61 D1 (oc), 62 D1 (oe), 63 S2 (oe), 64 S2 (oe), 65 S2 (oe), 66 S1 (oe), 67 S1 (oc), 68 S1 (oc), 69 D2 (oc), 70 D2 (oc), 71 D1 (oc), 72 D1 (oe), 73 S2 (oe), 74 S2 (oe), 75 S2 (oe)

## EPC2105
designator Q?
80V 14.5mE/3.6mE 10A/40A 1:4HB; MFG: EPC; Part Number: EPC2105; EPC Part Number: EPC2105; Config: *; Status: Released; MFGPN: EPC2105; Supplier 1: Digi-Key; Supplier Part Number 1: 917-1185-2-ND; Supplier 2: Digi-Key; Supplier Part Number 2: 917-1185-1-ND; Supplier 3: Digi-Key; Supplier Part Number 3: 917-1185-6-ND; QSGdescript: 80V 14.5mE/3.6mE 10A/40A 1:4HB; SchDescript: 80V 14.5mE/3.6mE 10A/40A 1:4HB
footprint D0342
pins: 1 D1 (oc), 2 G1, 3 SG1, 4 G2, 5 S2 (oe), 6 S1 (oe), 7 D2 (oc), 8 D2 (oc), 9 D2 (oc), 10 D2 (oc), 11 D1 (oc), 12 S2 (oe), 13 S2 (oe), 14 S2 (oe), 15 S2 (oe), 16 S1 (oe), 17 D2 (oc), 18 D2 (oc), 19 D2 (oc), 20 D2 (oc), 21 D1 (oc), 22 S2 (oe), 23 S2 (oe), 24 S2 (oe), 25 S2 (oe), 26 S1 (oe), 27 D2 (oc), 28 D2 (oc), 29 D2 (oc), 30 D2 (oc), 31 D1 (oc), 32 S2 (oe), 33 S2 (oe), 34 S2 (oe), 35 S2 (oe), 36 S1 (oe), 37 D2 (oc), 38 D2 (oc), 39 D2 (oc), 40 D2 (oc), 41 D1 (oc), 42 S2 (oe), 43 S2 (oe), 44 S2 (oe), 45 S2 (oe), 46 S1 (oe), 47 D2 (oc), 48 D2 (oc), 49 D2 (oc), 50 D2 (oc), 51 D1 (oc), 52 S2 (oe), 53 S2 (oe), 54 S2 (oe), 55 S2 (oe), 56 S1 (oe), 57 D2 (oc), 58 D2 (oc), 59 D2 (oc), 60 D2 (oc), 61 D1 (oc), 62 S2 (oe), 63 S2 (oe), 64 S2 (oe), 65 S2 (oe), 66 S1 (oe), 67 D2 (oc), 68 D2 (oc), 69 D2 (oc), 70 D2 (oc), 71 D1 (oc), 72 S2 (oe), 73 S2 (oe), 74 S2 (oe), 75 S2 (oe)

## EPC2106
designator Q?
100V 70mE 1.7A 1:1HB; MFG: EPC; Part Number: EPC2106; EPC Part Number: EPC2106; Config: *; Status: Released; MFGPN: EPC2106; Supplier 1: Digi-Key; Supplier Part Number 1: 917-1110-2-ND; Supplier 2: Digi-Key; Supplier Part Number 2: 917-1110-1-ND; Supplier 3: Digi-Key; Supplier Part Number 3: 917-1110-6-ND; QSGdescript: 100V 70mE 1.7A 1:1HB; SchDescript: 100V 70mE 1.7A 1:1HB
footprint D0144
pins: 1 G1, 2 S1 (oe), 3 G2, 4 D1 (oc), 5 S1 (oe), 6 S2 (oe), 7 D1 (oc), 8 D2 (oc), 9 S2 (oe)

## EPC2107
designator Q?
100V 390mE 1.7A 1:1HB; MFG: EPC; Part Number: EPC2107; EPC Part Number: EPC2107; Config: *; Status: Released; MFGPN: EPC2107; Supplier 1: Digi-Key; Supplier Part Number 1: 917-1168-2-ND; Supplier 2: Digi-Key; Supplier Part Number 2: 917-1168-1-ND; Supplier 3: Digi-Key; Supplier Part Number 3: 917-1168-6-ND; QSGdescript: 100V 390mE 1.7A 1:1HB; SchDescript: 100V 390mE 1.7A 1:1HB
footprint D0144
part A pins: 1 G1, 2 G2 (oc), 4 S1 (oe), 5 D2 (oe), 7 D1 (oe), 8 S2 (oe)
part B pins: 3 G3 (oe), 6 D3 (oc), 9 S3

## EPC2108
designator Q?
60V 240mE 1.7A 1:1HB; MFG: EPC; Part Number: EPC2108; EPC Part Number: EPC2108; Config: *; Status: Released; MFGPN: EPC2108; Supplier 1: Digi-Key; Supplier Part Number 1: 917-1169-2-ND; Supplier 2: Digi-Key; Supplier Part Number 2: 917-1169-1-ND; Supplier 3: Digi-Key; Supplier Part Number 3: 917-1169-6-ND; QSGdescript: 60V 240mE 1.7A 1:1HB; SchDescript: 60V 240mE 1.7A 1:1HB
footprint D0144
part A pins: 1 G1, 2 G2 (oc), 4 S1 (oe), 5 D2 (oe), 7 D1 (oe), 8 S2 (oe)
part B pins: 3 G3 (oe), 6 D3 (oc), 9 S3

## EPC2110
designator Q?
120V 110mE 3.4A 1:1Common Source; MFG: EPC; Part Number: EPC2110; EPC Part Number: EPC2110; Config: *; Status: Released; MFGPN: EPC2110; Supplier 1: Digi-Key; Supplier Part Number 1: 917-1152-2-ND; Supplier 2: Digi-Key; Supplier Part Number 2: 917-1152-1-ND; Supplier 3: Digi-Key; Supplier Part Number 3: 917-1152-6-ND; QSGdescript: 120V 110mE 3.4A 1:1Common Source; SchDescript: 120V 110mE 3.4A 1:1Common Source
footprint D0144
pins: 1 G1, 2 D1 (oe), 3 D1 (oe), 4 S (oc), 5 S (oe), 6 S (oe), 7 G2, 8 D2 (oc), 9 D2 (oc)

## EPC2111
designator Q?
30 V HB 19mE/8mE 16A/16A 1:2HB; MFG: EPC; Part Number: EPC2111; EPC Part Number: EPC2111; Config: *; Status: Released; MFGPN: EPC2111; Supplier 1: Digi-Key; Supplier Part Number 1: 917-1174-2-ND; Supplier 2: Digi-Key; Supplier Part Number 2: 917-1174-1-ND; Supplier 3: Digi-Key; Supplier Part Number 3: 917-1174-6-ND; QSGdescript: 30 V HB 19mE/8mE 16A/16A 1:2HB; SchDescript: 30 V HB 19mE/8mE 16A/16A 1:2HB
footprint D0331
pins: 1 G1 (power), 2 VSW1 (power), 3 G2, 4 VIN1 (power), 5 VSW2 (power), 6 GND1 (power), 7 VIN2 (power), 8 VSW3 (power), 9 GND2 (power), 10 VIN3 (power), 11 VSW4 (power), 12 GND3 (power), 13 VIN4 (power), 14 VSW5 (power), 15 GND4 (power), 16 VIN5 (power), 17 VSW6 (power), 18 GND5 (power), 19 VIN6 (power), 20 VSW7 (power), 21 GND6 (power)

## EPC2152
designator U?
80V, 12mE Sym HB IC with UVLO & ESDs.; MFG: EPC; Part Number: EPC2152; EPC Part Number: EPC2152; Config: *; Status: Released; MFGPN: EPC2152; QSGdescript: 80V, 12mE Sym HB IC with UVLO & ESDs.; SchDescript: 80V, 12mE Sym HB IC with UVLO & ESDs.; Supplier 1: Digi-Key; Supplier 2: Digi-Key; Supplier 3: Digi-Key; Supplier Part Number 1: 917-EPC2152ENGRTCT-ND; Supplier Part Number 2: 917-EPC2152ENGRTTR-ND; Supplier Part Number 3: 917-EPC2152ENGRTDKR-ND
footprint D0122
pins: 1 Vdd12F, 2 Vdd12, 3 HSin, 4 LSin, 5 Vin, 6 SW, 7 SW, 8 Vss, 9 Vin, 10 SW, 11 SW, 12 Vss
text: Sync; boot; 5,9; Level; Output; Shift; Driver; Logic; +; 6,7; UVLO; 10,11; POR

## EPC2202
designator Q?
80V 17mE 18A; MFG: EPC; Part Number: EPC2202; EPC Part Number: EPC2202; Config: *; Status: Released; MFGPN: EPC2202; Supplier 1: Digi-Key; Supplier Part Number 1: 917-1199-2-ND; Supplier 2: Digi-Key; Supplier Part Number 2: 917-1199-1-ND; Supplier 3: Digi-Key; Supplier Part Number 3: 917-1199-6-ND; QSGdescript: 80V 17mE 18A; SchDescript: 80V 17mE 18A
footprint D0155
pins: 1 G, 2 Sub (oe), 3 D1 (oc), 4 SP1 (oe), 5 D2 (oc), 6 SP2 (oe)

## EPC2203
designator Q?
80V 80mE 1.7A; MFG: EPC; Part Number: EPC2203; EPC Part Number: EPC2203; Config: *; Status: Released; MFGPN: EPC2203; Supplier 1: Digi-Key; Supplier Part Number 1: 917-1200-2-ND; Supplier 2: Digi-Key; Supplier Part Number 2: 917-1200-1-ND; Supplier 3: Digi-Key; Supplier Part Number 3: 917-1200-6-ND; QSGdescript: 80V 80mE 1.7A; SchDescript: 80V 80mE 1.7A
footprint D0353
pins: 1 G, 2 S1 (oe), 3 D1 (oc), 4 S2 (oe)

## EPC2204
designator Q?
100V 32A 6mE; MFG: EPC; Part Number: EPC2204; EPC Part Number: EPC2204; Config: *; Status: Released; MFGPN: EPC2204; QSGdescript: 100V 32A 6mE; SchDescript: 100V 32A 6mE; Supplier 1: Digi-Key; Supplier 2: Digi-Key; Supplier 3: Digi-Key; Supplier Part Number 1: 917-1223-1-ND; Supplier Part Number 2: 917-1223-2-ND; Supplier Part Number 3: 917-1223-6-ND
footprint D0133CT44M
pins: 1 G, 2 S (oe), 3 D (oc), 4 S (oe), 5 D (oc), 6 S (oe)

## EPC2204A
designator Q2204A?
80V 29A 6mE; MFG: EPC; Name: Plumeria; Part Number: EPC2204A; SchDescript: 80V 29A 6mE; MFGPN: EPC2204A; EPC Part Number: EPC2204A; QSGdescript: 80V 29A 6mE; Status: Released; Supplier 1: Digi-Key; Supplier Part Number 1: 917-EPC2204ACT-ND; Supplier 2: Digi-Key; Supplier Part Number 2: 917-EPC2204ATR-ND; Supplier 3: Digi-Key; Supplier Part Number 3: 917-EPC2204ADKR-ND
footprint D0133CT44M
pins: 1 G, 2 S (oe), 3 D (oc), 4 S (oe), 5 D (oc), 6 S (oe)

## EPC2206
designator Q?
80V 2.2mE 90A; MFG: EPC; Part Number: EPC2206; EPC Part Number: EPC2206; Config: *; Status: Released; MFGPN: EPC2206; Supplier 1: Digi-Key; Supplier Part Number 1: 917-1212-2-ND; Supplier 2: Digi-Key; Supplier Part Number 2: 917-1212-1-ND; Supplier 3: Digi-Key; Supplier Part Number 3: 917-1212-6-ND; QSGdescript: 80V 2.2mE 90A; SchDescript: 80V 2.2mE 90A
footprint D0232
pins: 1 G, 2 S1 (oe), 3 D1 (oc), 4 D2 (oc), 5 S2 (oe), 6 S3 (oe), 7 D3 (oc), 8 D4 (oc), 9 S4 (oe), 10 S5 (oe), 11 D5 (oc), 12 D6 (oc), 13 S6 (oe), 14 S7 (oe), 15 D7 (oc), 16 D8 (oc), 17 S8 (oe), 18 S9 (oe), 19 D9 (oc), 20 D10 (oc), 21 S10 (oe), 22 S11 (oe), 23 D11 (oc), 24 D12 (oc), 25 S12 (oe), 26 S13 (oe), 27 D13 (oc), 28 D14 (oc), 29 S14 (oe), 30 Sub (oe)

## EPC2207
designator Q?  SchDescript: 200V  22mE 22A
200V 13A 22mE; MFG: EPC; Part Number: EPC2207; EPC Part Number: EPC2207; Config: *; Status: Released; MFGPN: EPC2207; QSGdescript: 200V  22mE 22A; Supplier 1: Digi-Key; Supplier 2: Digi-Key; Supplier 3: Digi-Key; Supplier Part Number 1: 917-EPC2207CT-ND; Supplier Part Number 2: 917-EPC2207TR-ND; Supplier Part Number 3: 917-EPC2207DKR-ND
footprint D0177B
pins: 1 G, 2 S (oe), 3 D (oc), 4 S (oe), 5 D (oc), 6 S (oe)

## EPC2212
designator Q?
100V 40mE 10A; MFG: EPC; Part Number: EPC2212; EPC Part Number: EPC2212; Config: *; Status: Released; MFGPN: EPC2212; Supplier 1: Digi-Key; Supplier Part Number 1: 917-1211-2-ND; Supplier 2: Digi-Key; Supplier Part Number 2: 917-1211-1-ND; Supplier 3: Digi-Key; Supplier Part Number 3: 917-1211-6-ND; QSGdescript: 100V 40mE 10A; SchDescript: 100V 40mE 10A
footprint D0155
pins: 1 G, 2 Sub (oe), 3 D1 (oc), 4 SP1 (oe), 5 D2 (oc), 6 SP2 (oe)

## EPC2214
designator Q?
80V 20mE 10A; MFG: EPC; Part Number: EPC2214; EPC Part Number: EPC2214; Config: *; Status: Released; MFGPN: EPC2214; Supplier 1: Digi-Key; Supplier Part Number 1: 917-1213-2-ND; Supplier 2: Digi-Key; Supplier Part Number 2: 917-1213-1-ND; Supplier 3: Digi-Key; Supplier Part Number 3: 917-1213-6-ND; QSGdescript: 80V 20mE 10A; SchDescript: 80V 20mE 10A
footprint D0166
pins: 1 G, 2 S1 (oe), 3 S2 (oe), 4 D1 (oc), 5 D2 (oc), 6 D3 (oc), 7 D4 (oc), 8 S3 (oe), 9 S4 (oe)

## EPC2215
designator Q?
200V 42A 8mE; MFG: EPC; Part Number: EPC2215; EPC Part Number: EPC2215; Config: *; Status: Released; MFGPN: EPC2215; Supplier 1: Digi-Key; Supplier 2: Digi-Key; Supplier 3: Digi-Key; QSGdescript: 200V 42A 8mE; SchDescript: 200V 42A 8mE; Supplier Part Number 1: 917-1218-1-ND; Supplier Part Number 2: 917-1218-2-ND; Supplier Part Number 3: 917-1218-6-ND
footprint D0111BT34M
pins: 1 G, 2 S, 3 D, 4 S, 5 D, 6 S

## EPC2216
designator Q?
15V 26mE 3.4A; MFG: EPC; Part Number: EPC2216; EPC Part Number: EPC2216; Config: *; Status: Released; MFGPN: EPC2216; Supplier 1: Digi-Key; Supplier Part Number 1: 917-1224-2-ND; Supplier 2: Digi-Key; Supplier Part Number 2: 917-1224-1-ND; Supplier 3: Digi-Key; Supplier Part Number 3: 917-1224-6-ND; QSGdescript: 15V 26mE 3.4A; SchDescript: 15V 26mE 3.4A
footprint D0210
pins: 1 G, 2 D1 (oc), 3 S1 (oe), 4 S2 (oe), 5 D2 (oc), 6 S3 (oe)

## EPC2218
designator Q?
100 V 60A 3.2mE; MFG: EPC; Part Number: EPC2218; EPC Part Number: EPC2218; Config: *; Status: Released; MFGPN: EPC2218; QSGdescript: 100 V 60A 3.2mE; SchDescript: 100 V 60A 3.2mE; Supplier 1: Digi-Key; Supplier 2: Digi-Key; Supplier 3: Digi-Key; Supplier Part Number 1: 917-EPC2218CT-ND; Supplier Part Number 2: 917-EPC2218TR-ND; Supplier Part Number 3: 917-EPC2218DKR-ND
footprint D0320T34M
pins: 1 G, 2 S, 3 D, 4 S, 5 D, 6 S, 7 D, 8 S

## EPC2218A
designator Q2218A?
80V 60A 3.2mE; MFG: EPC; Name: Hibiscus; Part Number: EPC2218A; SchDescript: 80V 60A 3.2mE; MFGPN: EPC2218A; EPC Part Number: EPC2218A; QSGdescript: 80V 60A 3.2mE; Status: Released; Supplier 1: Digi-Key; Supplier Part Number 1: 917-EPC2218ACT-ND; Supplier 2: Digi-Key; Supplier Part Number 2: 917-EPC2218ATR-ND; Supplier 3: Digi-Key; Supplier Part Number 3: 917-EPC2218ADKR-ND
footprint D0320T34M
pins: 1 G, 2 S, 3 D, 4 S, 5 D, 6 S, 7 D, 8 S

## EPC2219
designator Q?
65 V, 3300mE, 0.5A; MFG: EPC; Part Number: EPC2219; SchDescript: 65 V, 3300mE, 0.5A; MFGPN: EPC2219; EPC Part Number: EPC2219; QSGdescript: 65 V, 3300mE, 0.5A; Status: Released; Supplier 1: Digi-Key; Supplier Part Number 1: 917-EPC2219CT-ND; Supplier 2: Digi-Key; Supplier Part Number 2: 917-EPC2219TR-ND; Supplier 3: Digi-Key; Supplier Part Number 3: 917-EPC2219DKR-ND
footprint D0353
pins: 1 G, 2 S1 (oe), 3 D1 (oc), 4 S2 (oe)

## EPC2221
designator Q?
100V 59mE 5A; MFG: EPC; Name: Itachi; Part Number: EPC2221; SchDescript: 100V 59mE 5A; MFGPN: EPC2221; EPC Part Number: EPC2221; QSGdescript: 100V 59mE 5A; Status: Released; Supplier 1: Digi-Key; Supplier Part Number 1: 917-EPC2221CT-ND; Supplier 2: Digi-Key; Supplier Part Number 2: 917-EPC2221TR-ND; Supplier 3: Digi-Key; Supplier Part Number 3: 917-EPC2221DKR-ND
footprint D0551
part A pins: 1 G1, 2 D1a (oc), 3 D1b (oc), 4 S1a (oe), 6 S1b (oe)
part B pins: 5 S2 (oe), 7 G2, 8 D2a (oc), 9 D2b (oc)

## EPC2252
designator Q?
100V 11mE 8.2A; MFG: EPC; Name: Spruce; Part Number: EPC2252; SchDescript: 100V 11mE 8.2A; MFGPN: EPC2252; EPC Part Number: EPC2252; QSGdescript: 100V 11mE 8.2A; Status: Released; Supplier 1: Digi-Key; Supplier Part Number 1: 917-EPC2252TR-ND; Supplier 2: Digi-Key; Supplier Part Number 2: 917-EPC2252CT-ND; Supplier 3: Digi-Key; Supplier Part Number 3: 917-EPC2252DKR-ND
footprint D0045
pins: 1 G, 2 S1 (oe), 3 S2 (oe), 4 D1 (oc), 5 D2 (oc), 6 D3 (oc), 7 S3 (oe), 8 S5 (oe), 9 S4 (oe)

## EPC2302
designator Q?
100V 101A 1.9mE; MFG: EPC; Name: Bellini; Part Number: EPC2302; SchDescript: 100V 101A 1.9mE; MFGPN: EPC2302; EPC Part Number: EPC2302; QSGdescript: 100V 101A 1.9mE; Status: Released; Supplier 1: Digi-Key; Supplier Part Number 1: 917-EPC2302TR-ND; Supplier 2: Digi-Key; Supplier Part Number 2: 917-EPC2302CT-ND; Supplier 3: Digi-Key; Supplier Part Number 3: 917-EPC2302DKR-ND
footprint D0606F_100V
pins: 1 G, 2 S, 3 D, 4 S, 5 D, 6 S, 7 D

## EPC2304
designator Q?  SchDescript: 200V 102 5mE
200V 102A 5.0mE; MFG: EPC; Name: Mimosa; Part Number: EPC2304; MFGPN: EPC2304; EPC Part Number: EPC2304; QSGdescript: 200V 102 5mE; Status: Released; Supplier 1: Digi-Key; Supplier Part Number 1: 917-EPC2304ENGRTCT-ND; Supplier 2: Digi-Key; Supplier Part Number 2: 917-EPC2304ENGRTTR-ND; Supplier 3: Digi-Key; Supplier Part Number 3: 917-EPC2304ENGRTDKR-ND
footprint D0606F_200V
pins: 1 G, 2 S, 3 D, 4 S, 5 D, 6 S, 7 D

## EPC2305
designator Q?  SchDescript: 150V 80A 3mE
150V 80A 3.0mE; MFG: EPC; Name: Spritz; Part Number: EPC2305; MFGPN: EPC2305; EPC Part Number: EPC2305; QSGdescript: 150V 80A 3mE; Status: Released; Supplier 1: Digi-Key; Supplier Part Number 1: 917-EPC2305ENGRTCT-ND; Supplier 2: Digi-Key; Supplier Part Number 2: 917-EPC2305ENGRTTR-ND; Supplier 3: Digi-Key; Supplier Part Number 3: 917-EPC2305ENGRTDKR-ND
footprint D0606F_200V
pins: 1 G, 2 S, 3 D, 4 S, 5 D, 6 S, 7 D

## EPC2306
designator Q?
100V 48A 3.8mE; MFG: EPC; Name: Rossini; Part Number: EPC2306; SchDescript: 100V 48A 3.8mE; MFGPN: EPC2306; EPC Part Number: EPC2306; QSGdescript: 100V 48A 3.8mE; Status: Released; Supplier 1: Digi-Key; Supplier Part Number 1: 917-EPC2306ENGRTCT-ND; Supplier 2: Digi-Key; Supplier Part Number 2: 917-EPC2306ENGRTTR-ND; Supplier 3: Digi-Key; Supplier Part Number 3: 917-EPC2306ENGRTDKR-ND
footprint D0606H_100V
pins: 1 G, 2 S, 3 D, 4 S, 5 D, 6 S, 7 D

## EPC2307
designator Q?
200V 48A 10mE; MFG: EPC; Name: Sangria; Part Number: EPC2307; SchDescript: 200V 48A 10mE; MFGPN: EPC2307; EPC Part Number: EPC2307; QSGdescript: 200V 48A 10mE; Status: Released; Supplier 1: Digi-Key; Supplier 2: Digi-Key; Supplier 3: Digi-Key
footprint D0606H_200V
pins: 1 G, 2 S, 3 D, 4 S, 5 D, 6 S, 7 D

## EPC2308
designator Q?  SchDescript: 150V 48A 6mE
150V 48A 6.0mE; MFG: EPC; Name: Sidecar; Part Number: EPC2308; MFGPN: EPC2308; EPC Part Number: EPC2308; QSGdescript: 150V 48A 6mE; Status: Released; Supplier 1: Digi-Key; Supplier Part Number 1: 917-EPC2308ENGRTCT-ND; Supplier 2: Digi-Key; Supplier Part Number 2: 917-EPC2308ENGRTTR-ND; Supplier 3: Digi-Key; Supplier Part Number 3: 917-EPC2308ENGRTDKR-ND
footprint D0606H_200V
pins: 1 G, 2 S, 3 D, 4 S, 5 D, 6 S, 7 D

## EPC2619
designator Q?
80V 29A 4mE; MFG: EPC; Name: Excalibur; Part Number: EPC2619; SchDescript: 80V 29A 4mE; MFGPN: EPC2619; EPC Part Number: EPC2619; QSGdescript: 80V 29A 4mE; Status: Released; Supplier 1: Digi-Key; Supplier Part Number 1: 917-EPC2619ENGRTCT-ND; Supplier 2: Digi-Key; Supplier Part Number 2: 917-EPC2619ENGRTTR-ND; Supplier 3: Digi-Key; Supplier Part Number 3: 917-EPC2619ENGRTDKR-ND
footprint D0133CT44M
pins: 1 G, 2 S (oe), 3 D (oc), 4 S (oe), 5 D (oc), 6 S (oe)

## EPC8002
designator Q?
65V 480mE 2A; MFG: EPC; Part Number: EPC8002; EPC Part Number: EPC8002; Config: *; Status: Released; MFGPN: EPC8002; Supplier 1: Digi-Key; Supplier Part Number 1: 917-1118-2-ND; Supplier 2: Digi-Key; Supplier Part Number 2: 917-1118-1-ND; Supplier 3: Digi-Key; Supplier Part Number 3: 917-1118-6-ND; QSGdescript: 65V 480mE 2A; SchDescript: 65V 480mE 2A
footprint D0221
pins: 1 G, 2 SG (oe), 3 SP1 (oe), 4 D (oc), 5 SP2 (oe), 6 Sub (oe)

## EPC8004
designator Q?
40V 110mE 4A; MFG: EPC; Part Number: EPC8004; EPC Part Number: EPC8004; Config: *; Status: Released; MFGPN: EPC8004; Supplier 1: Digi-Key; Supplier Part Number 1: 917-1072-2-ND; Supplier 2: Digi-Key; Supplier Part Number 2: 917-1072-1-ND; Supplier 3: Digi-Key; Supplier Part Number 3: 917-1072-6-ND; QSGdescript: 40V 110mE 4A; SchDescript: 40V 110mE 4A
footprint D0221
pins: 1 G, 2 SG (oe), 3 SP1 (oe), 4 D (oc), 5 SP2 (oe), 6 Sub (oe)

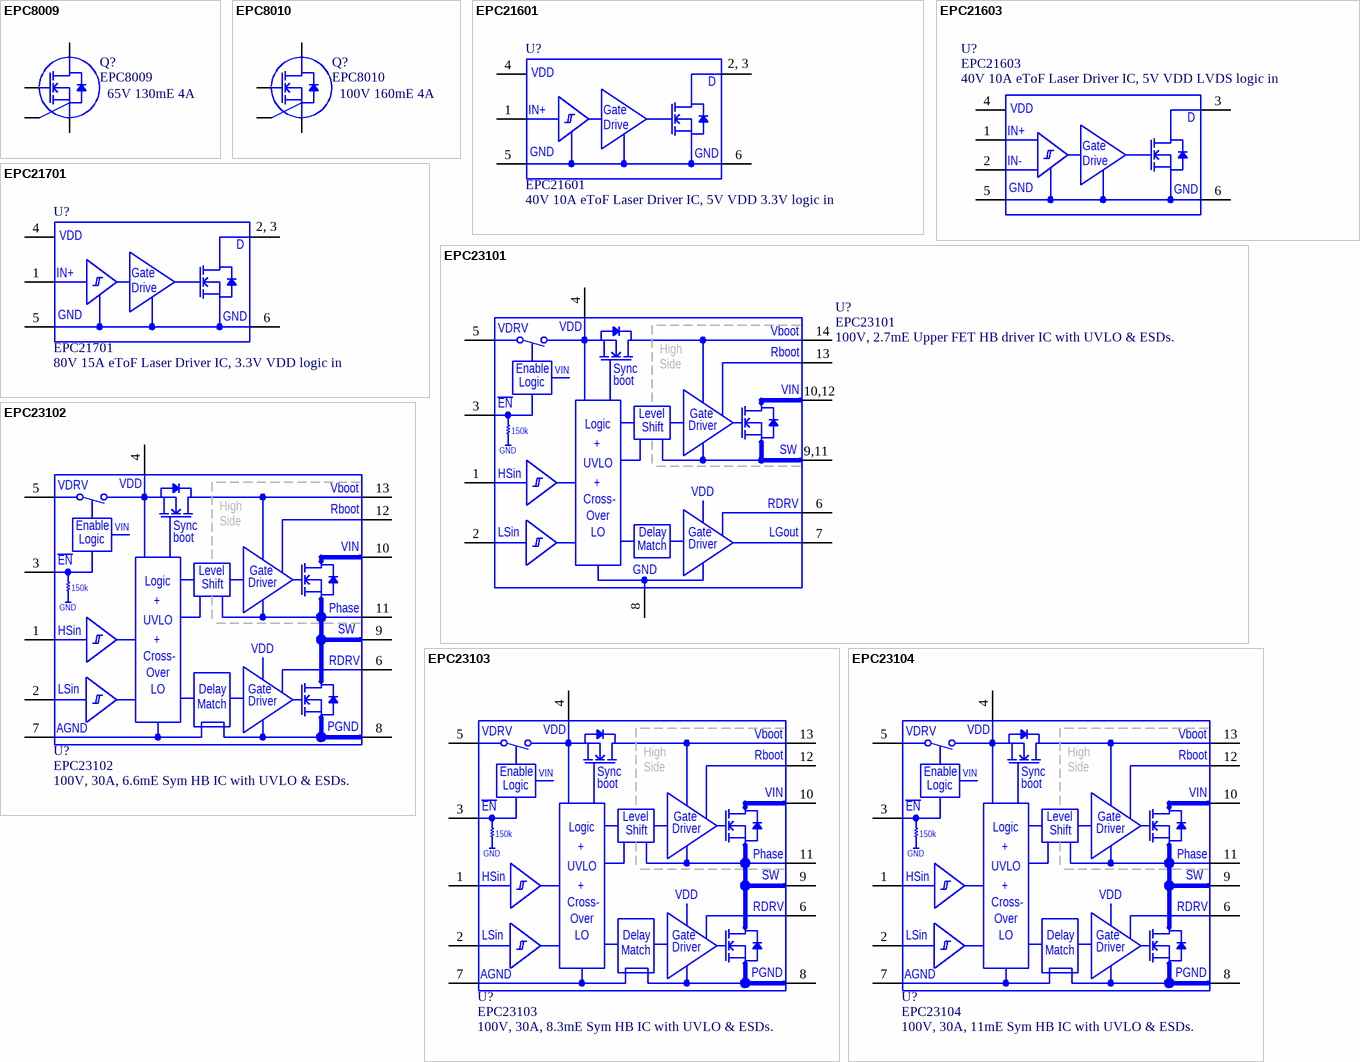
[diagram p2: symbols EPC8009 to EPC23104]

## EPC8009
designator Q?
65V 130mE 4A; MFG: EPC; Part Number: EPC8009; EPC Part Number: EPC8009; Config: *; Status: Released; MFGPN: EPC8009; Supplier 1: Digi-Key; Supplier Part Number 1: 917-1078-2-ND; Supplier 2: Digi-Key; Supplier Part Number 2: 917-1078-1-ND; Supplier 3: Digi-Key; Supplier Part Number 3: 917-1078-6-ND; QSGdescript: 65V 130mE 4A; SchDescript: 65V 130mE 4A
footprint D0221
pins: 1 G, 2 SG (oe), 3 SP1 (oe), 4 D (oc), 5 SP2 (oe), 6 Sub (oe)

## EPC8010
designator Q?
100V 160mE 4A; MFG: EPC; Part Number: EPC8010; EPC Part Number: EPC8010; Config: *; Status: Released; MFGPN: EPC8010; Supplier 1: Digi-Key; Supplier Part Number 1: 917-1086-2-ND; Supplier 2: Digi-Key; Supplier Part Number 2: 917-1086-1-ND; Supplier 3: Digi-Key; Supplier Part Number 3: 917-1086-6-ND; QSGdescript: 100V 160mE 4A; SchDescript: 100V 160mE 4A
footprint D0221
pins: 1 G, 2 SG (oe), 3 SP1 (oe), 4 D (oc), 5 SP2 (oe), 6 Sub (oe)

## EPC21601
designator U?  SchDescript: 40V 10A eToF Laser Driver IC, 5V VDD 3.3V logic in
eToF Laser Driver IC, 40V 10A with 5V VDD, 3.3V logic input; MFG: EPC; Part Number: EPC21601; MFGPN: EPC21601; EPC Part Number: EPC21601; QSGdescript: 40V 10A eToF Laser Driver IC, 5V VDD 3.3V logic in; Status: Released; Supplier 1: Digi-Key; Supplier Part Number 1: 917-EPC21601CT-ND; Supplier 2: Digi-Key; Supplier Part Number 2: 917-EPC21601TR-ND; Supplier 3: Digi-Key; Supplier Part Number 3: 917-EPC21601DKR-ND
footprint D0452
pins: 1 IN+, 2 D, 3 D, 4 VDD, 5 GND, 6 GND
text: 2, 3; Gate; Drive

## EPC21603
designator U?  SchDescript: 40V 10A eToF Laser Driver IC, 5V VDD LVDS logic in  (hidden comment: EPC21603)
eToF Laser Driver IC, 40V 10A with 5V VDD, LVDS input; MFG: EPC; Part Number: EPC21603; MFGPN: EPC21603; EPC Part Number: EPC21603; QSGdescript: 40V 10A eToF Laser Driver IC, 5V VDD LVDS logic in; Status: Released; Supplier 1: Digi-Key; Supplier Part Number 1: 917-EPC21603ENGRTCT-ND; Supplier 2: Digi-Key; Supplier Part Number 2: 917-EPC21603ENGRTTR-ND; Supplier 3: Digi-Key; Supplier Part Number 3: 917-EPC21603ENGRTDKR-ND
footprint D0452
pins: 1 IN+, 2 IN-, 3 D, 4 VDD, 5 GND, 6 GND
text: Gate; Drive

## EPC21701
designator U?  SchDescript: 80V 15A eToF Laser Driver IC, 3.3V VDD logic in
eToF Laser Driver IC, 80V 15A with 5V VDD, 3.3V logic input; MFG: EPC; Name: Eos; Part Number: EPC21701; MFGPN: EPC21701; EPC Part Number: EPC21701; QSGdescript: 80V 15A eToF Laser Driver IC, 3.3V VDD logic in; Status: Released; Supplier 1: Digi-Key; Supplier Part Number 1: 917-EPC21701TR-ND; Supplier 2: Digi-Key; Supplier Part Number 2: 917-EPC21701CT-ND; Supplier 3: Digi-Key; Supplier Part Number 3: 917-EPC21701DKR-ND
footprint D0617
pins: 1 IN+, 2 D, 3 D, 4 VDD, 5 GND, 6 GND
text: 2, 3; Gate; Drive

## EPC23101
designator U?  SchDescript: 100V, 2.7mE Upper FET HB driver IC with UVLO & ESDs.
80V, 2.7mE Upper FET HB driver IC with UVLO & ESDs.; MFG: EPC; Name: Chewbacca; Part Number: EPC23101; MFGPN: EPC23101; EPC Part Number: EPC23101; QSGdescript: 100V, 2.7mE Upper FET HB driver IC with UVLO & ESDs.; Status: Released; Supplier 1: Digi-Key; Supplier Part Number 1: 917-EPC23101ENGRTTR-ND; Supplier 2: Digi-Key; Supplier Part Number 2: 917-EPC23101ENGRTCT-ND; Supplier 3: Digi-Key; Supplier Part Number 3: 917-EPC23101ENGRTDKR-ND
footprint D0629
pins: 1 HSin, 2 LSin, 3 ENb, 4 VDD, 5 VDRV, 6 RDRV, 7 LGout, 8 GND, 9 SW, 10 VIN, 11 SW, 12 VIN, 13 Rboot, 14 Vboot
1 alternate drawing of the same symbol
text: High; Side; Enable; Sync; Logic; boot; 10,12; EN; Level; Gate; 150k; Shift; Driver; +; 9,11; UVLO; Cross-; Over; LO; Delay; Match